# Altium schematic symbol library UZOhm_Digital_Voltage.SchLib: 2 symbols
Pins are listed as number, name and electrical type; pins without a type are passive.

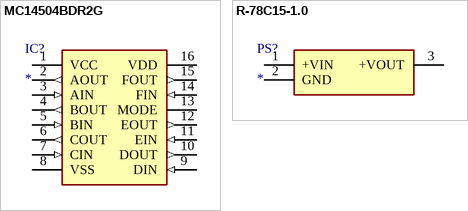
[diagram p0: symbols MC14504BDR2G to R-78C15-1.0]

## MC14504BDR2G
designator IC?
Integrated Circuit; Manufacturer_Name: ON Semiconductor; Manufacturer_Part_Number: MC14504BDR2G; Allied_Number: 70275421; Datasheet Link: http://www.onsemi.com/pub/Collateral/MC14504B-D.PDF; Height: 1.75mm; Mouser Part Number: 863-MC14504BDR2G; Mouser Price/Stock: https://www.mouser.com/Search/Refine.aspx?Keyword=863-MC14504BDR2G; RS Part Number: 7737746P; RS Price/Stock: http://uk.rs-online.com/web/p/products/7737746P; Allied Price/Stock: http://www.alliedelec.com/on-semiconductor-mc14504bdr2g/70275421/
footprint SOIC127P600X175-16N
pins: 1 VCC (power), 2 AOUT (out), 3 AIN (in), 4 BOUT (out), 5 BIN (in), 6 COUT (out), 7 CIN (in), 8 VSS (power), 9 DIN (in), 10 DOUT (out), 11 EIN (in), 12 EOUT (out), 13 MODE, 14 FIN (in), 15 FOUT (out), 16 VDD (power)

## R-78C15-1.0
designator PS?
Power Supply; Manufacturer_Name: RECOM Power; Manufacturer_Part_Number: R-78C15-1.0; Datasheet Link: https://www.recom-power.com/pdf/Innoline/R-78Cxx-1.0.pdf; Height: 10.9mm; Mouser Part Number: 919-R-78C15-1.0; Mouser Price/Stock: https://www.mouser.com/Search/Refine.aspx?Keyword=919-R-78C15-1.0; RS Part Number: 7398307P; RS Price/Stock: http://uk.rs-online.com/web/p/products/7398307P
footprint R78C1510
pins: 1 +VIN, 2 GND, 3 +VOUT